# Altium integrated library TI_Logic_Flip-Flop,Latch,Register.IntLib: 2598 symbols (part 29 of 122)
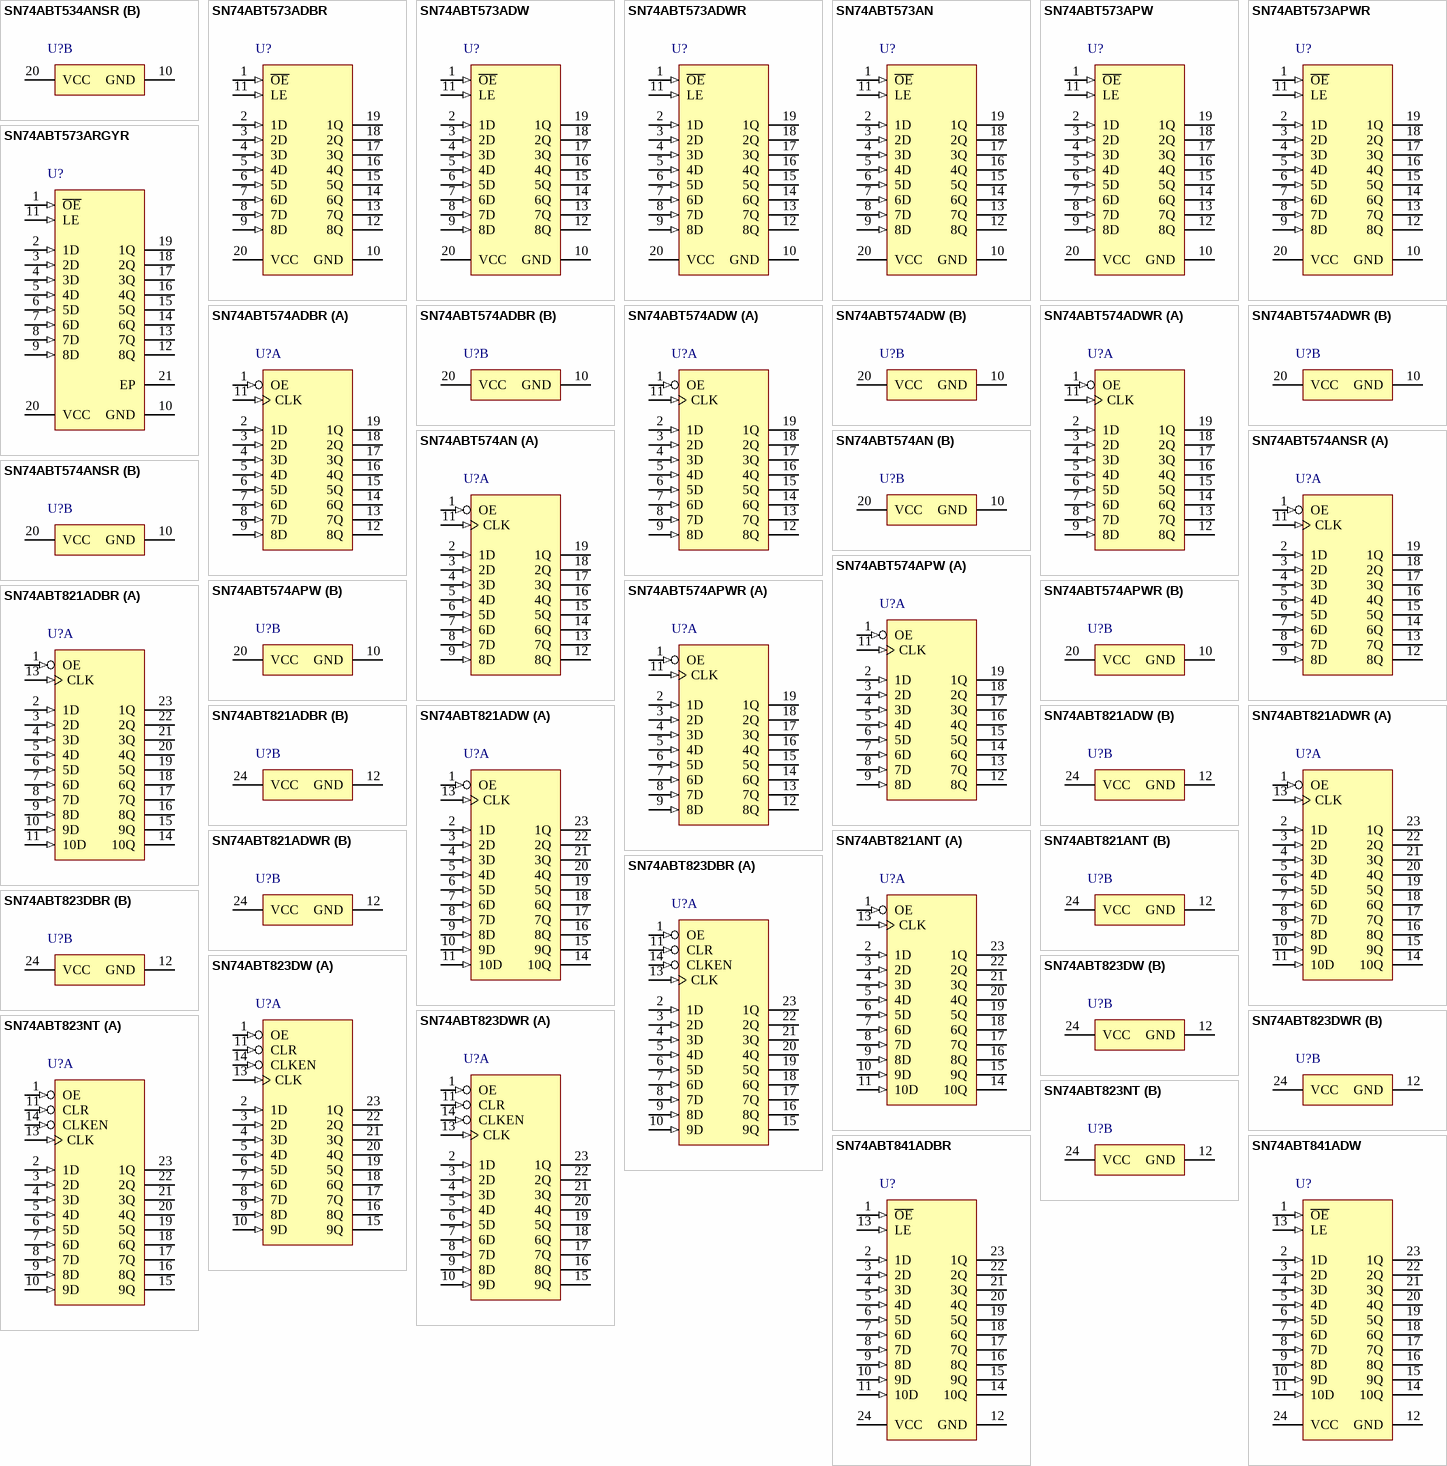
[diagram p167: symbols SN74ABT534ANSR to SN74ABT841ADW]

## SN74ABT821ADWR
designator U?
10-Bit Bus Interface Flip-Flops With 3-State Outputs, DW0024A, LARGE T&R; Generic Part Number: SN74ABT821A; Manufacturer: Texas Instruments; PartNumber: SN74ABT821ADWR; VCC(Min)(V): 4.5; VCC(Max)(V): 5.5; Output Type: TTL; ICC @ Nom Voltage(Max)(mA): 38; Bits(#): 10; F @ Nom Voltage(Max)(Mhz): 150; Rating: Catalog; Technology Family: ABT; Voltage(Nom)(V): 5; Schmitt Trigger: No; Output Drive (IOL/IOH)(Max)(mA): 64/-32; Output Logic: Non-inverted; 3-State Output: Yes; tpd @ Nom Voltage(Max)(ns): 6.9; DatasheetVersion: SCBS193E; PackageReference: DW0024A; Supplier 1: Digi-Key; Supplier Part Number 1: 296-14677-2-ND; Supplier 2: Digi-Key; Supplier Part Number 2: 296-14677-1-ND; Supplier 3: Digi-Key; Supplier Part Number 3: 296-14677-6-ND; Supplier 4: Mouser; Supplier Part Number 4: 595-SN74ABT821ADWR; Input Type: TTL; Operating Temperature Range(C): -40 to 85; Code_JEDEC: MS-013; ComponentLink1Description: Manufacturer URL; ComponentLink1URL: http://www.ti.com/; ComponentLink2Description: Datasheet; ComponentLink2URL: http://www.ti.com/lit/ds/symlink/sn74abt821a.pdf; ComponentLink3Description: Package Specification; ComponentLink3URL: http://www.ti.com/lit/ml/mpds174a/mpds174a.pdf
footprint DW0024A_N (SOIC, 24-Leads, Body 15.6x7.6mm, Pitch 1.27mm, IPC Medium Density)
footprint DW0024A_M (SOIC, 24-Leads, Body 15.6x7.6mm, Pitch 1.27mm, IPC Low Density)
footprint DW0024A_L (SOIC, 24-Leads, Body 15.6x7.6mm, Pitch 1.27mm, IPC High Density)
part A pins: 1 OE (in), 2 1D (in), 3 2D (in), 4 3D (in), 5 4D (in), 6 5D (in), 7 6D (in), 8 7D (in), 9 8D (in), 10 9D (in), 11 10D (in), 13 CLK (in), 14 10Q (hiz), 15 9Q (hiz), 16 8Q (hiz), 17 7Q (hiz), 18 6Q (hiz), 19 5Q (hiz), 20 4Q (hiz), 21 3Q (hiz), 22 2Q (hiz), 23 1Q (hiz)
part B pins: 12 GND (power), 24 VCC (power)

## SN74ABT821ANT
designator U?
10-Bit Bus Interface Flip-Flops With 3-State Outputs, NT0024A, TUBE; Generic Part Number: SN74ABT821A; Manufacturer: Texas Instruments; PartNumber: SN74ABT821ANT; VCC(Min)(V): 4.5; VCC(Max)(V): 5.5; Output Type: TTL; ICC @ Nom Voltage(Max)(mA): 38; Bits(#): 10; F @ Nom Voltage(Max)(Mhz): 150; Rating: Catalog; Technology Family: ABT; Voltage(Nom)(V): 5; Schmitt Trigger: No; Output Drive (IOL/IOH)(Max)(mA): 64/-32; Output Logic: Non-inverted; 3-State Output: Yes; tpd @ Nom Voltage(Max)(ns): 6.9; DatasheetVersion: SCBS193E; PackageReference: NT0024A; Supplier 1: Digi-Key; Supplier Part Number 1: 296-4090-5-ND; Supplier 2: Mouser; Supplier Part Number 2: 595-SN74ABT821ANT; Input Type: TTL; Operating Temperature Range(C): -40 to 85; ComponentLink1Description: Manufacturer URL; ComponentLink1URL: http://www.ti.com/; ComponentLink2Description: Datasheet; ComponentLink2URL: http://www.ti.com/lit/ds/symlink/sn74abt821a.pdf; ComponentLink3Description: Package Specification; ComponentLink3URL: http://www.ti.com/lit/ml/mpdi004a/mpdi004a.pdf
footprint NT0024A (DIP, 24-Leads, Body 32.05x7.1mm, Pitch 2.54mm)
part A pins: 1 OE (in), 2 1D (in), 3 2D (in), 4 3D (in), 5 4D (in), 6 5D (in), 7 6D (in), 8 7D (in), 9 8D (in), 10 9D (in), 11 10D (in), 13 CLK (in), 14 10Q (hiz), 15 9Q (hiz), 16 8Q (hiz), 17 7Q (hiz), 18 6Q (hiz), 19 5Q (hiz), 20 4Q (hiz), 21 3Q (hiz), 22 2Q (hiz), 23 1Q (hiz)
part B pins: 12 GND (power), 24 VCC (power)

## SN74ABT823DBR
designator U?
9-Bit Bus-Interface Flip-Flops With 3-State Outputs, DB0024A, LARGE T&R; Generic Part Number: SN74ABT823; Manufacturer: Texas Instruments; PartNumber: SN74ABT823DBR; VCC(Min)(V): 4.5; VCC(Max)(V): 5.5; Output Type: TTL; ICC @ Nom Voltage(Max)(mA): 38; Bits(#): 9; F @ Nom Voltage(Max)(Mhz): 150; Rating: Catalog; Technology Family: ABT; Voltage(Nom)(V): 5; Schmitt Trigger: No; Output Drive (IOL/IOH)(Max)(mA): 64/-32; Output Logic: Non-inverted; 3-State Output: Yes; tpd @ Nom Voltage(Max)(ns): 7.1; DatasheetVersion: SCBS158E; PackageReference: DB0024A; Supplier 1: Digi-Key; Supplier Part Number 1: 296-1048-2-ND; Supplier 2: Digi-Key; Supplier Part Number 2: 296-1048-1-ND; Supplier 3: Digi-Key; Supplier Part Number 3: 296-1048-6-ND; Supplier 4: Newark; Supplier Part Number 4: 35C1996; Supplier 5: Mouser; Supplier Part Number 5: 595-SN74ABT823DBR; Input Type: TTL; Operating Temperature Range(C): -40 to 85; Code_JEDEC: MO-150; ComponentLink1Description: Manufacturer URL; ComponentLink1URL: http://www.ti.com/; ComponentLink2Description: Datasheet; ComponentLink2URL: http://www.ti.com/lit/ds/symlink/sn74abt823.pdf; ComponentLink3Description: Package Specification; ComponentLink3URL: http://www.ti.com/lit/ml/mpds509/mpds509.pdf
footprint DB0024A_N (SOP, 24-Leads, Body 5.6x8.5mm, Pitch 0.65mm, IPC Medium Density)
footprint DB0024A_M (SOP, 24-Leads, Body 5.6x8.5mm, Pitch 0.65mm, IPC Low Density)
footprint DB0024A_L (SOP, 24-Leads, Body 5.6x8.5mm, Pitch 0.65mm, IPC High Density)
part A pins: 1 OE (in), 2 1D (in), 3 2D (in), 4 3D (in), 5 4D (in), 6 5D (in), 7 6D (in), 8 7D (in), 9 8D (in), 10 9D (in), 11 CLR (in), 13 CLK (in), 14 CLKEN (in), 15 9Q (hiz), 16 8Q (hiz), 17 7Q (hiz), 18 6Q (hiz), 19 5Q (hiz), 20 4Q (hiz), 21 3Q (hiz), 22 2Q (hiz), 23 1Q (hiz)
part B pins: 12 GND (power), 24 VCC (power)

## SN74ABT823DW
designator U?
9-Bit Bus-Interface Flip-Flops With 3-State Outputs, DW0024A, TUBE; Generic Part Number: SN74ABT823; Manufacturer: Texas Instruments; PartNumber: SN74ABT823DW; VCC(Min)(V): 4.5; VCC(Max)(V): 5.5; Output Type: TTL; ICC @ Nom Voltage(Max)(mA): 38; Bits(#): 9; F @ Nom Voltage(Max)(Mhz): 150; Rating: Catalog; Technology Family: ABT; Voltage(Nom)(V): 5; Schmitt Trigger: No; Output Drive (IOL/IOH)(Max)(mA): 64/-32; Output Logic: Non-inverted; 3-State Output: Yes; tpd @ Nom Voltage(Max)(ns): 7.1; DatasheetVersion: SCBS158E; PackageReference: DW0024A; Supplier 1: Digi-Key; Supplier Part Number 1: 296-4091-5-ND; Supplier 2: Farnell; Supplier Part Number 2: 1752854; Supplier 3: Mouser; Supplier Part Number 3: 595-SN74ABT823DW; Input Type: TTL; Operating Temperature Range(C): -40 to 85; Code_JEDEC: MS-013; ComponentLink1Description: Manufacturer URL; ComponentLink1URL: http://www.ti.com/; ComponentLink2Description: Datasheet; ComponentLink2URL: http://www.ti.com/lit/ds/symlink/sn74abt823.pdf; ComponentLink3Description: Package Specification; ComponentLink3URL: http://www.ti.com/lit/ml/mpds174a/mpds174a.pdf
footprint DW0024A_N (SOIC, 24-Leads, Body 15.6x7.6mm, Pitch 1.27mm, IPC Medium Density)
footprint DW0024A_M (SOIC, 24-Leads, Body 15.6x7.6mm, Pitch 1.27mm, IPC Low Density)
footprint DW0024A_L (SOIC, 24-Leads, Body 15.6x7.6mm, Pitch 1.27mm, IPC High Density)
part A pins: 1 OE (in), 2 1D (in), 3 2D (in), 4 3D (in), 5 4D (in), 6 5D (in), 7 6D (in), 8 7D (in), 9 8D (in), 10 9D (in), 11 CLR (in), 13 CLK (in), 14 CLKEN (in), 15 9Q (hiz), 16 8Q (hiz), 17 7Q (hiz), 18 6Q (hiz), 19 5Q (hiz), 20 4Q (hiz), 21 3Q (hiz), 22 2Q (hiz), 23 1Q (hiz)
part B pins: 12 GND (power), 24 VCC (power)

## SN74ABT823DWR
designator U?
9-Bit Bus-Interface Flip-Flops With 3-State Outputs, DW0024A, LARGE T&R; Generic Part Number: SN74ABT823; Manufacturer: Texas Instruments; PartNumber: SN74ABT823DWR; VCC(Min)(V): 4.5; VCC(Max)(V): 5.5; Output Type: TTL; ICC @ Nom Voltage(Max)(mA): 38; Bits(#): 9; F @ Nom Voltage(Max)(Mhz): 150; Rating: Catalog; Technology Family: ABT; Voltage(Nom)(V): 5; Schmitt Trigger: No; Output Drive (IOL/IOH)(Max)(mA): 64/-32; Output Logic: Non-inverted; 3-State Output: Yes; tpd @ Nom Voltage(Max)(ns): 7.1; DatasheetVersion: SCBS158E; PackageReference: DW0024A; Supplier 1: Digi-Key; Supplier Part Number 1: 296-14678-2-ND; Supplier 2: Digi-Key; Supplier Part Number 2: 296-14678-1-ND; Supplier 3: Digi-Key; Supplier Part Number 3: 296-14678-6-ND; Supplier 4: Mouser; Supplier Part Number 4: 595-SN74ABT823DWR; Input Type: TTL; Operating Temperature Range(C): -40 to 85; Code_JEDEC: MS-013; ComponentLink1Description: Manufacturer URL; ComponentLink1URL: http://www.ti.com/; ComponentLink2Description: Datasheet; ComponentLink2URL: http://www.ti.com/lit/ds/symlink/sn74abt823.pdf; ComponentLink3Description: Package Specification; ComponentLink3URL: http://www.ti.com/lit/ml/mpds174a/mpds174a.pdf
footprint DW0024A_N (SOIC, 24-Leads, Body 15.6x7.6mm, Pitch 1.27mm, IPC Medium Density)
footprint DW0024A_M (SOIC, 24-Leads, Body 15.6x7.6mm, Pitch 1.27mm, IPC Low Density)
footprint DW0024A_L (SOIC, 24-Leads, Body 15.6x7.6mm, Pitch 1.27mm, IPC High Density)
part A pins: 1 OE (in), 2 1D (in), 3 2D (in), 4 3D (in), 5 4D (in), 6 5D (in), 7 6D (in), 8 7D (in), 9 8D (in), 10 9D (in), 11 CLR (in), 13 CLK (in), 14 CLKEN (in), 15 9Q (hiz), 16 8Q (hiz), 17 7Q (hiz), 18 6Q (hiz), 19 5Q (hiz), 20 4Q (hiz), 21 3Q (hiz), 22 2Q (hiz), 23 1Q (hiz)
part B pins: 12 GND (power), 24 VCC (power)

## SN74ABT823NT
designator U?
9-Bit Bus-Interface Flip-Flops With 3-State Outputs, NT0024A, TUBE; Generic Part Number: SN74ABT823; Manufacturer: Texas Instruments; PartNumber: SN74ABT823NT; VCC(Min)(V): 4.5; VCC(Max)(V): 5.5; Output Type: TTL; ICC @ Nom Voltage(Max)(mA): 38; Bits(#): 9; F @ Nom Voltage(Max)(Mhz): 150; Rating: Catalog; Technology Family: ABT; Voltage(Nom)(V): 5; Schmitt Trigger: No; Output Drive (IOL/IOH)(Max)(mA): 64/-32; Output Logic: Non-inverted; 3-State Output: Yes; tpd @ Nom Voltage(Max)(ns): 7.1; DatasheetVersion: SCBS158E; PackageReference: NT0024A; Supplier 1: Digi-Key; Supplier Part Number 1: 296-4092-5-ND; Supplier 2: Farnell; Supplier Part Number 2: 1749897; Supplier 3: Newark; Supplier Part Number 3: 66F5678; Supplier 4: Mouser; Supplier Part Number 4: 595-SN74ABT823NT; Input Type: TTL; Operating Temperature Range(C): -40 to 85; ComponentLink1Description: Manufacturer URL; ComponentLink1URL: http://www.ti.com/; ComponentLink2Description: Datasheet; ComponentLink2URL: http://www.ti.com/lit/ds/symlink/sn74abt823.pdf; ComponentLink3Description: Package Specification; ComponentLink3URL: http://www.ti.com/lit/ml/mpdi004a/mpdi004a.pdf
footprint NT0024A (DIP, 24-Leads, Body 32.05x7.1mm, Pitch 2.54mm)
part A pins: 1 OE (in), 2 1D (in), 3 2D (in), 4 3D (in), 5 4D (in), 6 5D (in), 7 6D (in), 8 7D (in), 9 8D (in), 10 9D (in), 11 CLR (in), 13 CLK (in), 14 CLKEN (in), 15 9Q (hiz), 16 8Q (hiz), 17 7Q (hiz), 18 6Q (hiz), 19 5Q (hiz), 20 4Q (hiz), 21 3Q (hiz), 22 2Q (hiz), 23 1Q (hiz)
part B pins: 12 GND (power), 24 VCC (power)

## SN74ABT841ADBR
designator U?
10-Bit Bus-Interface D-Type Latches With 3-State Outputs, DB0024A, LARGE T&R; Generic Part Number: SN74ABT841A; Manufacturer: Texas Instruments; PartNumber: SN74ABT841ADBR; VCC(Min)(V): 4.5; VCC(Max)(V): 5.5; Output Type: TTL; Logic: True; Static Current: 21.62; ICC @ Nom Voltage(Max)(mA): 38; Bits(#): 10; F @ Nom Voltage(Max)(Mhz): 150; Rating: Catalog; Technology Family: ABT; Voltage(Nom)(V): 5; Schmitt Trigger: No; Output Drive (IOL/IOH)(Max)(mA): 64/-32; Output Logic: Non-inverted; 3-State Output: Yes; tpd @ Nom Voltage(Max)(ns): 7.2; DatasheetVersion: SCBS196D; PackageReference: DB0024A; Supplier 1: Digi-Key; Supplier Part Number 1: 296-1049-2-ND; Supplier 2: Digi-Key; Supplier Part Number 2: 296-1049-1-ND; Supplier 3: Digi-Key; Supplier Part Number 3: 296-1049-6-ND; Supplier 4: Mouser; Supplier Part Number 4: 595-SN74ABT841ADBR; Input Type: TTL; Operating Temperature Range(C): -40 to 85; Code_JEDEC: MO-150; ComponentLink1Description: Manufacturer URL; ComponentLink1URL: http://www.ti.com/; ComponentLink2Description: Datasheet; ComponentLink2URL: http://www.ti.com/lit/ds/symlink/sn74abt841a.pdf; ComponentLink3Description: Package Specification; ComponentLink3URL: http://www.ti.com/lit/ml/mpds509/mpds509.pdf
footprint DB0024A_N (SOP, 24-Leads, Body 5.6x8.5mm, Pitch 0.65mm, IPC Medium Density)
footprint DB0024A_M (SOP, 24-Leads, Body 5.6x8.5mm, Pitch 0.65mm, IPC Low Density)
footprint DB0024A_L (SOP, 24-Leads, Body 5.6x8.5mm, Pitch 0.65mm, IPC High Density)
pins: 1 ~{OE} (in), 2 1D (in), 3 2D (in), 4 3D (in), 5 4D (in), 6 5D (in), 7 6D (in), 8 7D (in), 9 8D (in), 10 9D (in), 11 10D (in), 12 GND (power), 13 LE (in), 14 10Q (hiz), 15 9Q (hiz), 16 8Q (hiz), 17 7Q (hiz), 18 6Q (hiz), 19 5Q (hiz), 20 4Q (hiz), 21 3Q (hiz), 22 2Q (hiz), 23 1Q (hiz), 24 VCC (power)

## SN74ABT841ADW
designator U?
10-Bit Bus-Interface D-Type Latches With 3-State Outputs, DW0024A, TUBE; Generic Part Number: SN74ABT841A; Manufacturer: Texas Instruments; PartNumber: SN74ABT841ADW; VCC(Min)(V): 4.5; VCC(Max)(V): 5.5; Output Type: TTL; Logic: True; Static Current: 21.62; ICC @ Nom Voltage(Max)(mA): 38; Bits(#): 10; F @ Nom Voltage(Max)(Mhz): 150; Rating: Catalog; Technology Family: ABT; Voltage(Nom)(V): 5; Schmitt Trigger: No; Output Drive (IOL/IOH)(Max)(mA): 64/-32; Output Logic: Non-inverted; 3-State Output: Yes; tpd @ Nom Voltage(Max)(ns): 7.2; DatasheetVersion: SCBS196D; PackageReference: DW0024A; Supplier 1: Digi-Key; Supplier Part Number 1: 296-4100-5-ND; Supplier 2: Farnell; Supplier Part Number 2: 1741594; Supplier 3: Mouser; Supplier Part Number 3: 595-SN74ABT841ADW; Input Type: TTL; Operating Temperature Range(C): -40 to 85; Code_JEDEC: MS-013; ComponentLink1Description: Manufacturer URL; ComponentLink1URL: http://www.ti.com/; ComponentLink2Description: Datasheet; ComponentLink2URL: http://www.ti.com/lit/ds/symlink/sn74abt841a.pdf; ComponentLink3Description: Package Specification; ComponentLink3URL: http://www.ti.com/lit/ml/mpds174a/mpds174a.pdf
footprint DW0024A_N (SOIC, 24-Leads, Body 15.6x7.6mm, Pitch 1.27mm, IPC Medium Density)
footprint DW0024A_M (SOIC, 24-Leads, Body 15.6x7.6mm, Pitch 1.27mm, IPC Low Density)
footprint DW0024A_L (SOIC, 24-Leads, Body 15.6x7.6mm, Pitch 1.27mm, IPC High Density)
pins: 1 ~{OE} (in), 2 1D (in), 3 2D (in), 4 3D (in), 5 4D (in), 6 5D (in), 7 6D (in), 8 7D (in), 9 8D (in), 10 9D (in), 11 10D (in), 12 GND (power), 13 LE (in), 14 10Q (hiz), 15 9Q (hiz), 16 8Q (hiz), 17 7Q (hiz), 18 6Q (hiz), 19 5Q (hiz), 20 4Q (hiz), 21 3Q (hiz), 22 2Q (hiz), 23 1Q (hiz), 24 VCC (power)

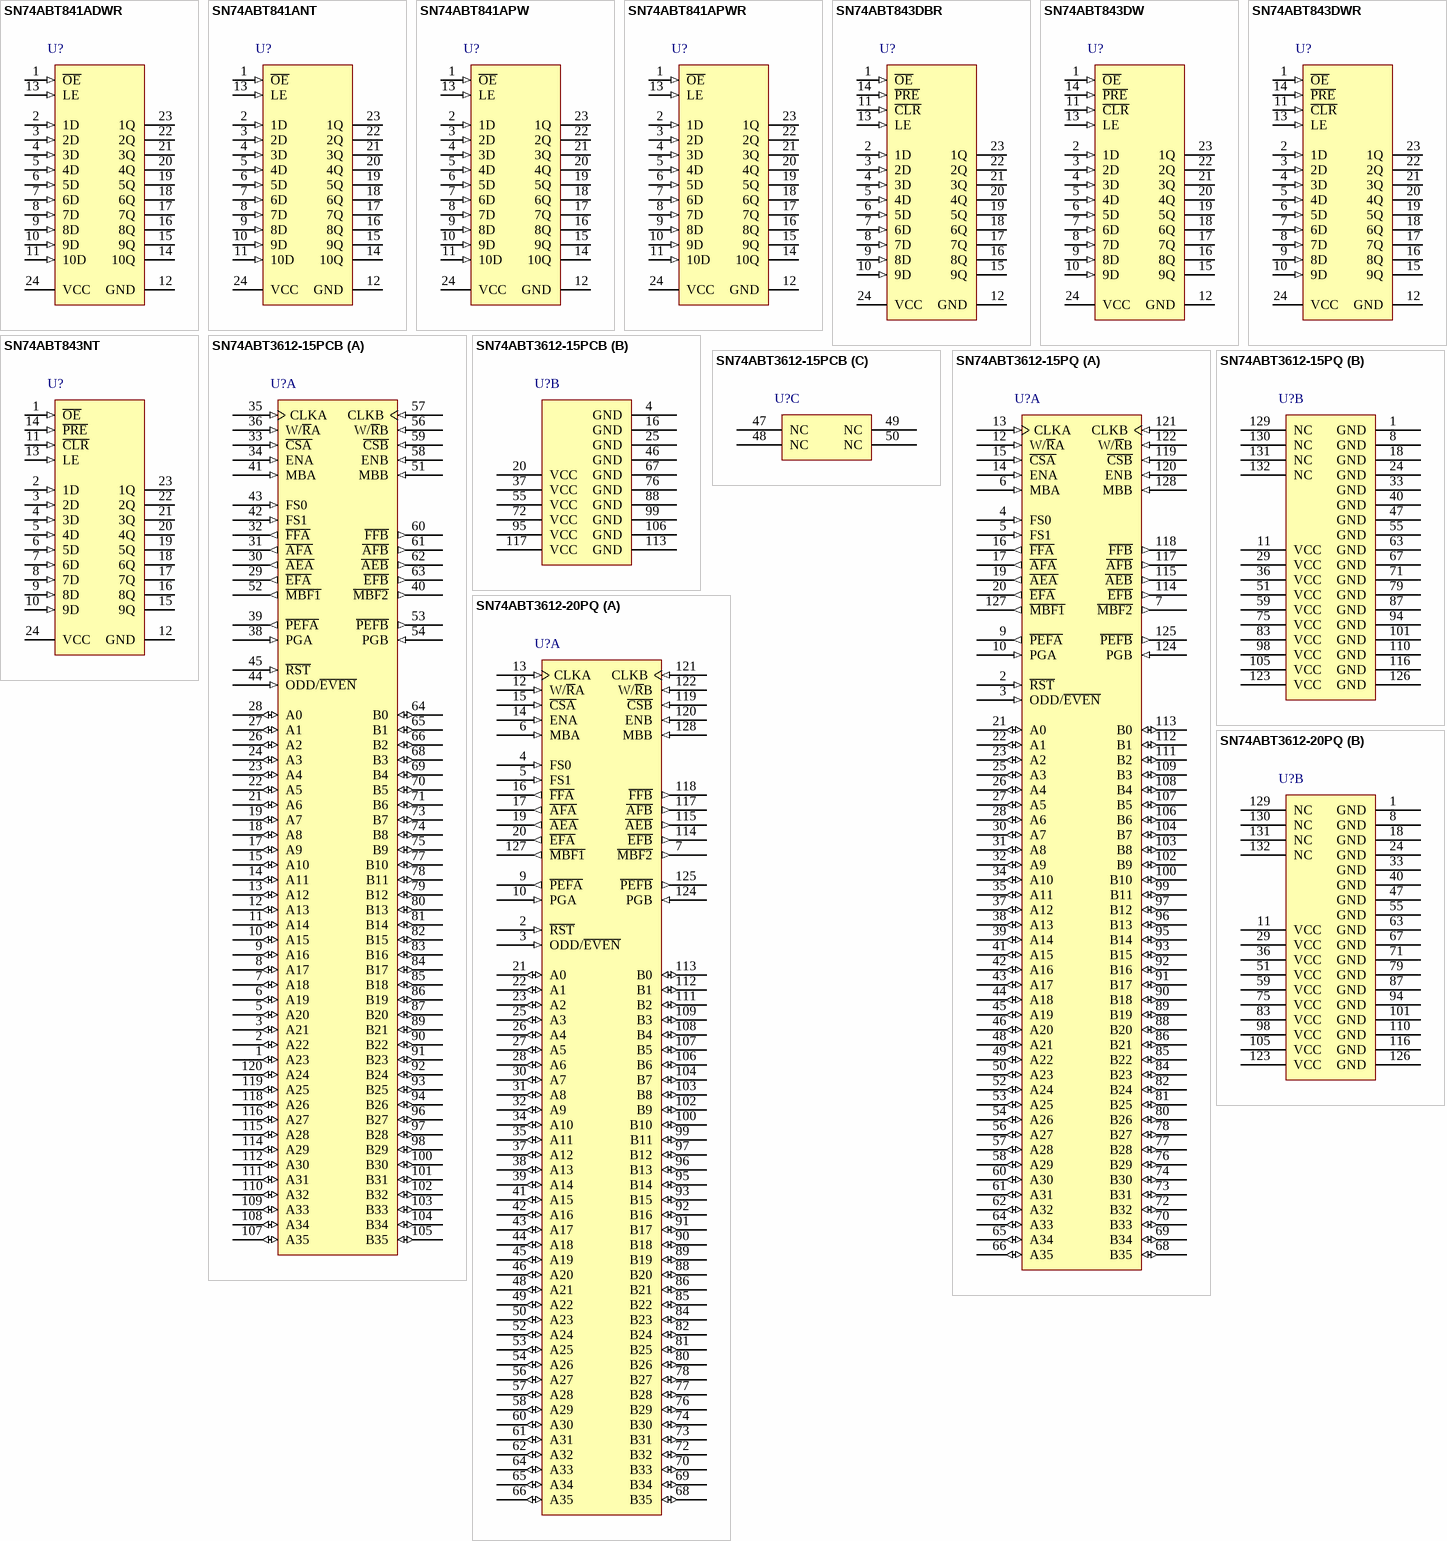
[diagram p42: symbols SN74ABT841ADWR to SN74ABT3612-20PQ]

## SN74ABT841ADWR
designator U?
10-Bit Bus-Interface D-Type Latches With 3-State Outputs, DW0024A, LARGE T&R; Generic Part Number: SN74ABT841A; Manufacturer: Texas Instruments; PartNumber: SN74ABT841ADWR; VCC(Min)(V): 4.5; VCC(Max)(V): 5.5; Output Type: TTL; Logic: True; Static Current: 21.62; ICC @ Nom Voltage(Max)(mA): 38; Bits(#): 10; F @ Nom Voltage(Max)(Mhz): 150; Rating: Catalog; Technology Family: ABT; Voltage(Nom)(V): 5; Schmitt Trigger: No; Output Drive (IOL/IOH)(Max)(mA): 64/-32; Output Logic: Non-inverted; 3-State Output: Yes; tpd @ Nom Voltage(Max)(ns): 7.2; DatasheetVersion: SCBS196D; PackageReference: DW0024A; Supplier 1: Digi-Key; Supplier Part Number 1: 296-14681-2-ND; Supplier 2: Digi-Key; Supplier Part Number 2: 296-14681-1-ND; Supplier 3: Digi-Key; Supplier Part Number 3: 296-14681-6-ND; Supplier 4: Mouser; Supplier Part Number 4: 595-SN74ABT841ADWR; Input Type: TTL; Operating Temperature Range(C): -40 to 85; Code_JEDEC: MS-013; ComponentLink1Description: Manufacturer URL; ComponentLink1URL: http://www.ti.com/; ComponentLink2Description: Datasheet; ComponentLink2URL: http://www.ti.com/lit/ds/symlink/sn74abt841a.pdf; ComponentLink3Description: Package Specification; ComponentLink3URL: http://www.ti.com/lit/ml/mpds174a/mpds174a.pdf
footprint DW0024A_N (SOIC, 24-Leads, Body 15.6x7.6mm, Pitch 1.27mm, IPC Medium Density)
footprint DW0024A_M (SOIC, 24-Leads, Body 15.6x7.6mm, Pitch 1.27mm, IPC Low Density)
footprint DW0024A_L (SOIC, 24-Leads, Body 15.6x7.6mm, Pitch 1.27mm, IPC High Density)
pins: 1 ~{OE} (in), 2 1D (in), 3 2D (in), 4 3D (in), 5 4D (in), 6 5D (in), 7 6D (in), 8 7D (in), 9 8D (in), 10 9D (in), 11 10D (in), 12 GND (power), 13 LE (in), 14 10Q (hiz), 15 9Q (hiz), 16 8Q (hiz), 17 7Q (hiz), 18 6Q (hiz), 19 5Q (hiz), 20 4Q (hiz), 21 3Q (hiz), 22 2Q (hiz), 23 1Q (hiz), 24 VCC (power)

## SN74ABT841ANT
designator U?
10-Bit Bus-Interface D-Type Latches With 3-State Outputs, NT0024A, TUBE; Generic Part Number: SN74ABT841A; Manufacturer: Texas Instruments; PartNumber: SN74ABT841ANT; VCC(Min)(V): 4.5; VCC(Max)(V): 5.5; Output Type: TTL; Logic: True; Static Current: 21.62; ICC @ Nom Voltage(Max)(mA): 38; Bits(#): 10; F @ Nom Voltage(Max)(Mhz): 150; Rating: Catalog; Technology Family: ABT; Voltage(Nom)(V): 5; Schmitt Trigger: No; Output Drive (IOL/IOH)(Max)(mA): 64/-32; Output Logic: Non-inverted; 3-State Output: Yes; tpd @ Nom Voltage(Max)(ns): 7.2; DatasheetVersion: SCBS196D; PackageReference: NT0024A; Supplier 1: Digi-Key; Supplier Part Number 1: 296-4101-5-ND; Supplier 2: Farnell; Supplier Part Number 2: 1741595; Supplier 3: Newark; Supplier Part Number 3: 76C1141; Supplier 4: Mouser; Supplier Part Number 4: 595-SN74ABT841ANT; Input Type: TTL; Operating Temperature Range(C): -40 to 85; ComponentLink1Description: Manufacturer URL; ComponentLink1URL: http://www.ti.com/; ComponentLink2Description: Datasheet; ComponentLink2URL: http://www.ti.com/lit/ds/symlink/sn74abt841a.pdf; ComponentLink3Description: Package Specification; ComponentLink3URL: http://www.ti.com/lit/ml/mpdi004a/mpdi004a.pdf
footprint NT0024A (DIP, 24-Leads, Body 32.05x7.1mm, Pitch 2.54mm)
pins: 1 ~{OE} (in), 2 1D (in), 3 2D (in), 4 3D (in), 5 4D (in), 6 5D (in), 7 6D (in), 8 7D (in), 9 8D (in), 10 9D (in), 11 10D (in), 12 GND (power), 13 LE (in), 14 10Q (hiz), 15 9Q (hiz), 16 8Q (hiz), 17 7Q (hiz), 18 6Q (hiz), 19 5Q (hiz), 20 4Q (hiz), 21 3Q (hiz), 22 2Q (hiz), 23 1Q (hiz), 24 VCC (power)

## SN74ABT841APW
designator U?
10-Bit Bus-Interface D-Type Latches With 3-State Outputs, PW0024A, TUBE; Generic Part Number: SN74ABT841A; Manufacturer: Texas Instruments; PartNumber: SN74ABT841APW; VCC(Min)(V): 4.5; VCC(Max)(V): 5.5; Output Type: TTL; Logic: True; Static Current: 21.62; ICC @ Nom Voltage(Max)(mA): 38; Bits(#): 10; F @ Nom Voltage(Max)(Mhz): 150; Rating: Catalog; Technology Family: ABT; Voltage(Nom)(V): 5; Schmitt Trigger: No; Output Drive (IOL/IOH)(Max)(mA): 64/-32; Output Logic: Non-inverted; 3-State Output: Yes; tpd @ Nom Voltage(Max)(ns): 7.2; DatasheetVersion: SCBS196D; PackageReference: PW0024A; Supplier 1: Digi-Key; Supplier Part Number 1: SN74ABT841APW-ND; Supplier 2: Farnell; Supplier Part Number 2: 1741474; Supplier 3: Mouser; Supplier Part Number 3: 595-SN74ABT841APW; Input Type: TTL; Operating Temperature Range(C): -40 to 85; Code_JEDEC: MO-153; ComponentLink1Description: Manufacturer URL; ComponentLink1URL: http://www.ti.com/; ComponentLink2Description: Datasheet; ComponentLink2URL: http://www.ti.com/lit/ds/symlink/sn74abt841a.pdf; ComponentLink3Description: Package Specification; ComponentLink3URL: http://www.ti.com/lit/ml/mpds363/mpds363.pdf
footprint PW0024A_N (SOP, 24-Leads, Body 7.9x4.5mm, Pitch 0.65mm, IPC Medium Density)
footprint PW0024A_M (SOP, 24-Leads, Body 7.9x4.5mm, Pitch 0.65mm, IPC Low Density)
footprint PW0024A_L (SOP, 24-Leads, Body 7.9x4.5mm, Pitch 0.65mm, IPC High Density)
pins: 1 ~{OE} (in), 2 1D (in), 3 2D (in), 4 3D (in), 5 4D (in), 6 5D (in), 7 6D (in), 8 7D (in), 9 8D (in), 10 9D (in), 11 10D (in), 12 GND (power), 13 LE (in), 14 10Q (hiz), 15 9Q (hiz), 16 8Q (hiz), 17 7Q (hiz), 18 6Q (hiz), 19 5Q (hiz), 20 4Q (hiz), 21 3Q (hiz), 22 2Q (hiz), 23 1Q (hiz), 24 VCC (power)

## SN74ABT841APWR
designator U?
10-Bit Bus-Interface D-Type Latches With 3-State Outputs, PW0024A, LARGE T&R; Generic Part Number: SN74ABT841A; Manufacturer: Texas Instruments; PartNumber: SN74ABT841APWR; VCC(Min)(V): 4.5; VCC(Max)(V): 5.5; Output Type: TTL; Logic: True; Static Current: 21.62; ICC @ Nom Voltage(Max)(mA): 38; Bits(#): 10; F @ Nom Voltage(Max)(Mhz): 150; Rating: Catalog; Technology Family: ABT; Voltage(Nom)(V): 5; Schmitt Trigger: No; Output Drive (IOL/IOH)(Max)(mA): 64/-32; Output Logic: Non-inverted; 3-State Output: Yes; tpd @ Nom Voltage(Max)(ns): 7.2; DatasheetVersion: SCBS196D; PackageReference: PW0024A; Supplier 1: Digi-Key; Supplier Part Number 1: 296-4102-2-ND; Supplier 2: Digi-Key; Supplier Part Number 2: 296-4102-1-ND; Supplier 3: Digi-Key; Supplier Part Number 3: 296-4102-6-ND; Supplier 4: Mouser; Supplier Part Number 4: 595-SN74ABT841APWR; Input Type: TTL; Operating Temperature Range(C): -40 to 85; Code_JEDEC: MO-153; ComponentLink1Description: Manufacturer URL; ComponentLink1URL: http://www.ti.com/; ComponentLink2Description: Datasheet; ComponentLink2URL: http://www.ti.com/lit/ds/symlink/sn74abt841a.pdf; ComponentLink3Description: Package Specification; ComponentLink3URL: http://www.ti.com/lit/ml/mpds363/mpds363.pdf
footprint PW0024A_N (SOP, 24-Leads, Body 7.9x4.5mm, Pitch 0.65mm, IPC Medium Density)
footprint PW0024A_M (SOP, 24-Leads, Body 7.9x4.5mm, Pitch 0.65mm, IPC Low Density)
footprint PW0024A_L (SOP, 24-Leads, Body 7.9x4.5mm, Pitch 0.65mm, IPC High Density)
pins: 1 ~{OE} (in), 2 1D (in), 3 2D (in), 4 3D (in), 5 4D (in), 6 5D (in), 7 6D (in), 8 7D (in), 9 8D (in), 10 9D (in), 11 10D (in), 12 GND (power), 13 LE (in), 14 10Q (hiz), 15 9Q (hiz), 16 8Q (hiz), 17 7Q (hiz), 18 6Q (hiz), 19 5Q (hiz), 20 4Q (hiz), 21 3Q (hiz), 22 2Q (hiz), 23 1Q (hiz), 24 VCC (power)

## SN74ABT843DBR
designator U?
9-Bit Bus-Interface D-Type Latches With 3-State Outputs, DB0024A, LARGE T&R; Generic Part Number: SN74ABT843; Manufacturer: Texas Instruments; PartNumber: SN74ABT843DBR; VCC(Min)(V): 4.5; VCC(Max)(V): 5.5; Output Type: TTL; Logic: True; Static Current: 17.12; ICC @ Nom Voltage(Max)(mA): 34; Bits(#): 9; F @ Nom Voltage(Max)(Mhz): 150; Rating: Catalog; Technology Family: ABT; Voltage(Nom)(V): 5; Schmitt Trigger: No; Output Drive (IOL/IOH)(Max)(mA): 64/-32; Output Logic: Non-inverted; 3-State Output: Yes; tpd @ Nom Voltage(Max)(ns): 7.2; DatasheetVersion: SCBS197D; PackageReference: DB0024A; Supplier 1: Digi-Key; Supplier Part Number 1: 296-4103-2-ND; Supplier 2: Digi-Key; Supplier Part Number 2: 296-4103-1-ND; Supplier 3: Digi-Key; Supplier Part Number 3: 296-4103-6-ND; Supplier 4: Mouser; Supplier Part Number 4: 595-SN74ABT843DBR; Input Type: TTL; Operating Temperature Range(C): -40 to 85; Code_JEDEC: MO-150; ComponentLink1Description: Manufacturer URL; ComponentLink1URL: http://www.ti.com/; ComponentLink2Description: Datasheet; ComponentLink2URL: http://www.ti.com/lit/ds/symlink/sn74abt843.pdf; ComponentLink3Description: Package Specification; ComponentLink3URL: http://www.ti.com/lit/ml/mpds509/mpds509.pdf
footprint DB0024A_N (SOP, 24-Leads, Body 5.6x8.5mm, Pitch 0.65mm, IPC Medium Density)
footprint DB0024A_M (SOP, 24-Leads, Body 5.6x8.5mm, Pitch 0.65mm, IPC Low Density)
footprint DB0024A_L (SOP, 24-Leads, Body 5.6x8.5mm, Pitch 0.65mm, IPC High Density)
pins: 1 ~{OE} (in), 2 1D (in), 3 2D (in), 4 3D (in), 5 4D (in), 6 5D (in), 7 6D (in), 8 7D (in), 9 8D (in), 10 9D (in), 11 ~{CLR} (in), 12 GND (power), 13 LE (in), 14 ~{PRE} (in), 15 9Q (hiz), 16 8Q (hiz), 17 7Q (hiz), 18 6Q (hiz), 19 5Q (hiz), 20 4Q (hiz), 21 3Q (hiz), 22 2Q (hiz), 23 1Q (hiz), 24 VCC (power)

## SN74ABT843DW
designator U?
9-Bit Bus-Interface D-Type Latches With 3-State Outputs, DW0024A, TUBE; Generic Part Number: SN74ABT843; Manufacturer: Texas Instruments; PartNumber: SN74ABT843DW; VCC(Min)(V): 4.5; VCC(Max)(V): 5.5; Output Type: TTL; Logic: True; Static Current: 17.12; ICC @ Nom Voltage(Max)(mA): 34; Bits(#): 9; F @ Nom Voltage(Max)(Mhz): 150; Rating: Catalog; Technology Family: ABT; Voltage(Nom)(V): 5; Schmitt Trigger: No; Output Drive (IOL/IOH)(Max)(mA): 64/-32; Output Logic: Non-inverted; 3-State Output: Yes; tpd @ Nom Voltage(Max)(ns): 7.2; DatasheetVersion: SCBS197D; PackageReference: DW0024A; Supplier 1: Digi-Key; Supplier Part Number 1: SN74ABT843DW-ND; Supplier 2: Farnell; Supplier Part Number 2: 1752855; Supplier 3: Mouser; Supplier Part Number 3: 595-SN74ABT843DW; Input Type: TTL; Operating Temperature Range(C): -40 to 85; Code_JEDEC: MS-013; ComponentLink1Description: Manufacturer URL; ComponentLink1URL: http://www.ti.com/; ComponentLink2Description: Datasheet; ComponentLink2URL: http://www.ti.com/lit/ds/symlink/sn74abt843.pdf; ComponentLink3Description: Package Specification; ComponentLink3URL: http://www.ti.com/lit/ml/mpds174a/mpds174a.pdf
footprint DW0024A_N (SOIC, 24-Leads, Body 15.6x7.6mm, Pitch 1.27mm, IPC Medium Density)
footprint DW0024A_M (SOIC, 24-Leads, Body 15.6x7.6mm, Pitch 1.27mm, IPC Low Density)
footprint DW0024A_L (SOIC, 24-Leads, Body 15.6x7.6mm, Pitch 1.27mm, IPC High Density)
pins: 1 ~{OE} (in), 2 1D (in), 3 2D (in), 4 3D (in), 5 4D (in), 6 5D (in), 7 6D (in), 8 7D (in), 9 8D (in), 10 9D (in), 11 ~{CLR} (in), 12 GND (power), 13 LE (in), 14 ~{PRE} (in), 15 9Q (hiz), 16 8Q (hiz), 17 7Q (hiz), 18 6Q (hiz), 19 5Q (hiz), 20 4Q (hiz), 21 3Q (hiz), 22 2Q (hiz), 23 1Q (hiz), 24 VCC (power)

## SN74ABT843DWR
designator U?
9-Bit Bus-Interface D-Type Latches With 3-State Outputs, DW0024A, LARGE T&R; Generic Part Number: SN74ABT843; Manufacturer: Texas Instruments; PartNumber: SN74ABT843DWR; VCC(Min)(V): 4.5; VCC(Max)(V): 5.5; Output Type: TTL; Logic: True; Static Current: 17.12; ICC @ Nom Voltage(Max)(mA): 34; Bits(#): 9; F @ Nom Voltage(Max)(Mhz): 150; Rating: Catalog; Technology Family: ABT; Voltage(Nom)(V): 5; Schmitt Trigger: No; Output Drive (IOL/IOH)(Max)(mA): 64/-32; Output Logic: Non-inverted; 3-State Output: Yes; tpd @ Nom Voltage(Max)(ns): 7.2; DatasheetVersion: SCBS197D; PackageReference: DW0024A; Supplier 1: Digi-Key; Supplier Part Number 1: SN74ABT843DWR-ND; Supplier 2: Mouser; Supplier Part Number 2: 595-SN74ABT843DWR; Input Type: TTL; Operating Temperature Range(C): -40 to 85; Code_JEDEC: MS-013; ComponentLink1Description: Manufacturer URL; ComponentLink1URL: http://www.ti.com/; ComponentLink2Description: Datasheet; ComponentLink2URL: http://www.ti.com/lit/ds/symlink/sn74abt843.pdf; ComponentLink3Description: Package Specification; ComponentLink3URL: http://www.ti.com/lit/ml/mpds174a/mpds174a.pdf
footprint DW0024A_N (SOIC, 24-Leads, Body 15.6x7.6mm, Pitch 1.27mm, IPC Medium Density)
footprint DW0024A_M (SOIC, 24-Leads, Body 15.6x7.6mm, Pitch 1.27mm, IPC Low Density)
footprint DW0024A_L (SOIC, 24-Leads, Body 15.6x7.6mm, Pitch 1.27mm, IPC High Density)
pins: 1 ~{OE} (in), 2 1D (in), 3 2D (in), 4 3D (in), 5 4D (in), 6 5D (in), 7 6D (in), 8 7D (in), 9 8D (in), 10 9D (in), 11 ~{CLR} (in), 12 GND (power), 13 LE (in), 14 ~{PRE} (in), 15 9Q (hiz), 16 8Q (hiz), 17 7Q (hiz), 18 6Q (hiz), 19 5Q (hiz), 20 4Q (hiz), 21 3Q (hiz), 22 2Q (hiz), 23 1Q (hiz), 24 VCC (power)

## SN74ABT843NT
designator U?
9-Bit Bus-Interface D-Type Latches With 3-State Outputs, NT0024A, TUBE; Generic Part Number: SN74ABT843; Manufacturer: Texas Instruments; PartNumber: SN74ABT843NT; VCC(Min)(V): 4.5; VCC(Max)(V): 5.5; Output Type: TTL; Logic: True; Static Current: 17.12; ICC @ Nom Voltage(Max)(mA): 34; Bits(#): 9; F @ Nom Voltage(Max)(Mhz): 150; Rating: Catalog; Technology Family: ABT; Voltage(Nom)(V): 5; Schmitt Trigger: No; Output Drive (IOL/IOH)(Max)(mA): 64/-32; Output Logic: Non-inverted; 3-State Output: Yes; tpd @ Nom Voltage(Max)(ns): 7.2; DatasheetVersion: SCBS197D; PackageReference: NT0024A; Supplier 1: Digi-Key; Supplier Part Number 1: 296-4104-5-ND; Supplier 2: Farnell; Supplier Part Number 2: 1750081; Supplier 3: Mouser; Supplier Part Number 3: 595-SN74ABT843NT; Input Type: TTL; Operating Temperature Range(C): -40 to 85; ComponentLink1Description: Manufacturer URL; ComponentLink1URL: http://www.ti.com/; ComponentLink2Description: Datasheet; ComponentLink2URL: http://www.ti.com/lit/ds/symlink/sn74abt843.pdf; ComponentLink3Description: Package Specification; ComponentLink3URL: http://www.ti.com/lit/ml/mpdi004a/mpdi004a.pdf
footprint NT0024A (DIP, 24-Leads, Body 32.05x7.1mm, Pitch 2.54mm)
pins: 1 ~{OE} (in), 2 1D (in), 3 2D (in), 4 3D (in), 5 4D (in), 6 5D (in), 7 6D (in), 8 7D (in), 9 8D (in), 10 9D (in), 11 ~{CLR} (in), 12 GND (power), 13 LE (in), 14 ~{PRE} (in), 15 9Q (hiz), 16 8Q (hiz), 17 7Q (hiz), 18 6Q (hiz), 19 5Q (hiz), 20 4Q (hiz), 21 3Q (hiz), 22 2Q (hiz), 23 1Q (hiz), 24 VCC (power)

## SN74ABT3612-15PCB
designator U?
64 x 36 x 2 bidirectional synchronous FIFO memory, PCB0120A, JEDEC TRAY (5+1); Generic Part Number: SN74ABT3612; Manufacturer: Texas Instruments; PartNumber: SN74ABT3612-15PCB; DatasheetVersion: SCBS129G; PackageReference: PCB0120A; Code_JEDEC: MS-026; ComponentLink1Description: Manufacturer URL; ComponentLink1URL: http://www.ti.com/; ComponentLink2Description: Datasheet; ComponentLink2URL: http://www.ti.com/lit/ds/symlink/sn74abt3612.pdf; ComponentLink3Description: Package Specification; ComponentLink3URL: http://www.ti.com/lit/ml/mhtq004a/mhtq004a.pdf
footprint PCB0120A_N (QFP, 120-Leads, Body 14x14mm, Pitch 0.4mm, IPC Medium Density)
footprint PCB0120A_M (QFP, 120-Leads, Body 14x14mm, Pitch 0.4mm, IPC Low Density)
footprint PCB0120A_L (QFP, 120-Leads, Body 14x14mm, Pitch 0.4mm, IPC High Density)
part A pins: 1 A23 (io) "Port-A data. The 36-bit bidirectional data port for side A.", 2 A22 (io) "Port-A data. The 36-bit bidirectional data port for side A.", 3 A21 (io) "Port-A data. The 36-bit bidirectional data port for side A.", 5 A20 (io) "Port-A data. The 36-bit bidirectional data port for side A.", 6 A19 (io) "Port-A data. The 36-bit bidirectional data port for side A.", 7 A18 (io) "Port-A data. The 36-bit bidirectional data port for side A.", 8 A17 (io) "Port-A data. The 36-bit bidirectional data port for side A.", 9 A16 (io) "Port-A data. The 36-bit bidirectional data port for side A.", 10 A15 (io) "Port-A data. The 36-bit bidirectional data port for side A.", 11 A14 (io) "Port-A data. The 36-bit bidirectional data port for side A.", 12 A13 (io) "Port-A data. The 36-bit bidirectional data port for side A.", 13 A12 (io) "Port-A data. The 36-bit bidirectional data port for side A.", 14 A11 (io) "Port-A data. The 36-bit bidirectional data port for side A.", 15 A10 (io) "Port-A data. The 36-bit bidirectional data port for side A.", 17 A9 (io) "Port-A data. The 36-bit bidirectional data port for side A.", 18 A8 (io) "Port-A data. The 36-bit bidirectional data port for side A.", 19 A7 (io) "Port-A data. The 36-bit bidirectional data port for side A.", 21 A6 (io) "Port-A data. The 36-bit bidirectional data port for side A.", 22 A5 (io) "Port-A data. The 36-bit bidirectional data port for side A.", 23 A4 (io) "Port-A data. The 36-bit bidirectional data port for side A.", 24 A3 (io) "Port-A data. The 36-bit bidirectional data port for side A.", 26 A2 (io) "Port-A data. The 36-bit bidirectional data port for side A.", 27 A1 (io) "Port-A data. The 36-bit bidirectional data port for side A.", 28 A0 (io) "Port-A data. The 36-bit bidirectional data port for side A.", 29 ~{EFA} (out) "Port-A empty flag. E\F\A\ is synchronized to the low-to-high transition of CLKA. When E\F\A is low, FIFO2 is empty and reads from its memory are disabled. Data can be read from FIFO2 to the output register when E\F\A\ is (See Datasheet)", 30 ~{AEA} (out) "Port-A almost-empty flag. Programmable flag synchronized to CLKA. A\E\A\ is low when the number of words in FIFO2 is less than or equal to the value in offset register X.", 31 ~{AFA} (out) "Port-A almost-full flag. Programmable flag synchronized to CLKA. A\F\A\ is low when the number of empty locations in FIFO1 is less than or equal to the value in offset register X.", 32 ~{FFA} (out) "Port-A full flag. F\F\A\ is synchronized to the low-to-high transition of CLKA. When F\F\A\ is low, FIFO1 is full and writes to its memory are disabled. F\F\A\ is forced low when the device is reset and is set high by the (See Datasheet)", 33 ~{CSA} (in) "Port-A chip select. C\S\A\ must be low to enable a low-to-high transition of CLKA to read or write data on port A. The A0-A35 outputs are in the high-impedance state when C\S\A\ is high.", 34 ENA (in) "Port-A enable. ENA must be high to enable a low-to-high transition of CLKA to read or write data on port A.", 35 CLKA (in) "Port-A clock. CLKA is a continuous clock that synchronizes all data transfers through port A and can be asynchronous or coincident to CLKB. E\F\A\, F\F\A\, A\F\A\, and A\E\A\ are synchronized to the low-to-high transition of (See Datasheet)", 36 W/~{R}A (in) "Port-A write/read select. W/R\A high selects a write operation and a low selects a read operation on port A for a low-to-high transition of CLKA. The A0-A35 outputs are in the high-impedance state when W/R\A is high.", 38 PGA (in) "Port-A parity generation. Parity is generated for data reads from port A when PGA is high. The type of parity generated is selected by the state of ODD/E\V\E\N\. Bytes are organized as A0-A8, A9-A17, A18-A26, and A27-A35. (See Datasheet)", 39 ~{PEFA} (out) "Port-A parity error flag. When any byte applied to A0-A35 fails parity, P\E\F\A\ is low. Bytes are organized as A0-A8, A9-A17, A18-A26, and A27-A35, with the most-significant bit of each byte serving as the parity bit. The (See Datasheet)", 40 ~{MBF2} (out) "Mail2 register flag. M\B\F\2\ is set low by the low-to-high transition of CLKB that writes data to the mail2 register. Writes to the mail2 register are inhibited while M\B\F\2\ is low. M\B\F\2\ is set high by a low-to-high (See Datasheet)", 41 MBA (in) "Port-A mailbox select. A high level on MBA chooses a mailbox register for a port-A read or write operation. When the A0-A35 outputs are active, a high level on MBA selects data from the mail2 register for output and a low (See Datasheet)", 42 FS1 (in) "Flag-offset selects. The low-to-high transition of R\S\T\ latches the values of FS0 and FS1, which selects one of four preset values for the almost-empty flag and almost-full flag offset.", 43 FS0 (in) "Flag-offset selects. The low-to-high transition of R\S\T\ latches the values of FS0 and FS1, which selects one of four preset values for the almost-empty flag and almost-full flag offset.", 44 ODD/~{EVEN} (in) "Odd/even parity select. Odd parity is checked on each port when ODD/E\V\E\N\ is high and even parity is checked when ODD/E\V\E\N\ is low. ODD/E\V\E\N\ also selects the type of parity generated for each port if parity (See Datasheet)", 45 ~{RST} (in) "Reset. To reset the device, four low-to-high transitions of CLKA and four low-to-high transitions of CLKB must occur while R\S\T\ is low. This sets A\F\A\, A\F\B\, M\B\F\1\, and M\B\F\2\ high and E\F\A\, E\F\B\, A\E\A\, (See Datasheet)", 51 MBB (in) "Port-B mailbox select. A high level on MBB chooses a mailbox register for a port-B read or write operation. When the B0-B35 outputs are active, a high level on MBB selects data from the mail1 register for output and a low (See Datasheet)", 52 ~{MBF1} (out) "Mail1 register flag. M\B\F\1\ is set low by the low-to-high transition of CLKA that writes data to the mail1 register. Writes to the mail1 register are inhibited while M\B\F\1\ is low. M\B\F\1\ is set high by a low-to-high (See Datasheet)", 53 ~{PEFB} (out) "Port-B parity error flag. When any byte applied to terminals B0-B35 fails parity, P\E\F\B\ is low. Bytes are organized as B0-B8, B9-B17, B18-B26, and B27-B35, with the most-significant bit of each byte serving as the parity (See Datasheet)", 54 PGB (in) "Port-B parity generation. Parity is generated for data reads from port B when PGB is high. The type of parity generated is selected by the state of ODD/E\V\E\N\. Bytes are organized as B0-B8, B9-B17, B18-B26, and B27-B35. (See Datasheet)", 56 W/~{R}B (in) "Port-B write/read select. W/R\B high selects a write operation and a low selects a read operation on port B for a low-to-high transition of CLKB. The B0-B35 outputs are in the high-impedance state when W/R\B is high.", 57 CLKB (in) "Port-B clock. CLKB is a continuous clock that synchronizes all data transfers through port B and can be asynchronous or coincident to CLKA. E\F\B\, F\F\B\, A\F\B\, and A\E\B\ are synchronized to the low-to-high transition of (See Datasheet)", 58 ENB (in) "Port-B enable. ENB must be high to enable a low-to-high transition of CLKB to read or write data on port B.", 59 ~{CSB} (in) "Port-B chip select. C\S\B\ must be low to enable a low-to-high transition of CLKB to read or write data on port B. The B0-B35 outputs are in the high-impedance state when C\S\B\ is high.", 60 ~{FFB} (out) "Port-B full flag. F\F\B\ is synchronized to the low-to-high transition of CLKB. When F\F\B\ is low, FIFO2 is full and writes to its memory are disabled. F\F\B\ is forced low when the device is reset and is set high by the (See Datasheet)", 61 ~{AFB} (out) "Port-B almost-full flag. Programmable flag synchronized to CLKB. A\F\B\ is low when the number of empty locations in FIFO2 is less than or equal to the value in offset register X.", 62 ~{AEB} (out) "Port-B almost-empty flag. Programmable flag synchronized to CLKB. A\E\B\ is low when the number of words in FIFO1 is less than or equal to the value in offset register X.", 63 ~{EFB} (out) "Port-B empty flag. E\F\B\ is synchronized to the low-to-high transition of CLKB. When E\F\B\ is low, FIFO1 is empty and reads from its memory are disabled. Data can be read from FIFO1 to the output register when E\F\B\ is (See Datasheet)", 64 B0 (io) "Port-B data. The 36-bit bidirectional data port for side B.", 65 B1 (io) "Port-B data. The 36-bit bidirectional data port for side B.", 66 B2 (io) "Port-B data. The 36-bit bidirectional data port for side B.", 68 B3 (io) "Port-B data. The 36-bit bidirectional data port for side B.", 69 B4 (io) "Port-B data. The 36-bit bidirectional data port for side B.", 70 B5 (io) "Port-B data. The 36-bit bidirectional data port for side B.", 71 B6 (io) "Port-B data. The 36-bit bidirectional data port for side B.", 73 B7 (io) "Port-B data. The 36-bit bidirectional data port for side B.", 74 B8 (io) "Port-B data. The 36-bit bidirectional data port for side B.", 75 B9 (io) "Port-B data. The 36-bit bidirectional data port for side B.", 77 B10 (io) "Port-B data. The 36-bit bidirectional data port for side B.", 78 B11 (io) "Port-B data. The 36-bit bidirectional data port for side B.", 79 B12 (io) "Port-B data. The 36-bit bidirectional data port for side B.", 80 B13 (io) "Port-B data. The 36-bit bidirectional data port for side B.", 81 B14 (io) "Port-B data. The 36-bit bidirectional data port for side B.", 82 B15 (io) "Port-B data. The 36-bit bidirectional data port for side B.", 83 B16 (io) "Port-B data. The 36-bit bidirectional data port for side B.", 84 B17 (io) "Port-B data. The 36-bit bidirectional data port for side B.", 85 B18 (io) "Port-B data. The 36-bit bidirectional data port for side B.", 86 B19 (io) "Port-B data. The 36-bit bidirectional data port for side B.", 87 B20 (io) "Port-B data. The 36-bit bidirectional data port for side B.", 89 B21 (io) "Port-B data. The 36-bit bidirectional data port for side B.", 90 B22 (io) "Port-B data. The 36-bit bidirectional data port for side B.", 91 B23 (io) "Port-B data. The 36-bit bidirectional data port for side B.", 92 B24 (io) "Port-B data. The 36-bit bidirectional data port for side B.", 93 B25 (io) "Port-B data. The 36-bit bidirectional data port for side B.", 94 B26 (io) "Port-B data. The 36-bit bidirectional data port for side B.", 96 B27 (io) "Port-B data. The 36-bit bidirectional data port for side B.", 97 B28 (io) "Port-B data. The 36-bit bidirectional data port for side B.", 98 B29 (io) "Port-B data. The 36-bit bidirectional data port for side B.", 100 B30 (io) "Port-B data. The 36-bit bidirectional data port for side B.", 101 B31 (io) "Port-B data. The 36-bit bidirectional data port for side B.", 102 B32 (io) "Port-B data. The 36-bit bidirectional data port for side B.", 103 B33 (io) "Port-B data. The 36-bit bidirectional data port for side B.", 104 B34 (io) "Port-B data. The 36-bit bidirectional data port for side B.", 105 B35 (io) "Port-B data. The 36-bit bidirectional data port for side B.", 107 A35 (io) "Port-A data. The 36-bit bidirectional data port for side A.", 108 A34 (io) "Port-A data. The 36-bit bidirectional data port for side A.", 109 A33 (io) "Port-A data. The 36-bit bidirectional data port for side A.", 110 A32 (io) "Port-A data. The 36-bit bidirectional data port for side A.", 111 A31 (io) "Port-A data. The 36-bit bidirectional data port for side A.", 112 A30 (io) "Port-A data. The 36-bit bidirectional data port for side A.", 114 A29 (io) "Port-A data. The 36-bit bidirectional data port for side A.", 115 A28 (io) "Port-A data. The 36-bit bidirectional data port for side A.", 116 A27 (io) "Port-A data. The 36-bit bidirectional data port for side A.", 118 A26 (io) "Port-A data. The 36-bit bidirectional data port for side A.", 119 A25 (io) "Port-A data. The 36-bit bidirectional data port for side A.", 120 A24 (io) "Port-A data. The 36-bit bidirectional data port for side A."
part B pins: 4 GND (power), 16 GND (power), 20 VCC (power), 25 GND (power), 37 VCC (power), 46 GND (power), 55 VCC (power), 67 GND (power), 72 VCC (power), 76 GND (power), 88 GND (power), 95 VCC (power), 99 GND (power), 106 GND (power), 113 GND (power), 117 VCC (power)
part C pins: 47 NC, 48 NC, 49 NC, 50 NC